# Altium footprint library SOIC18-1.27-11.5X7.5MM.PcbLib: 1 footprints
Each footprint in its own frame and in the unit in brackets; x right, y up, seen from the top. Pads: shape width x height; smd on the part's side, far side on the other; paste and mask are expansions set on the pad; w line width, h text height; cw(c..) or ccw(c..) is an arc to the next point about the centre after c.
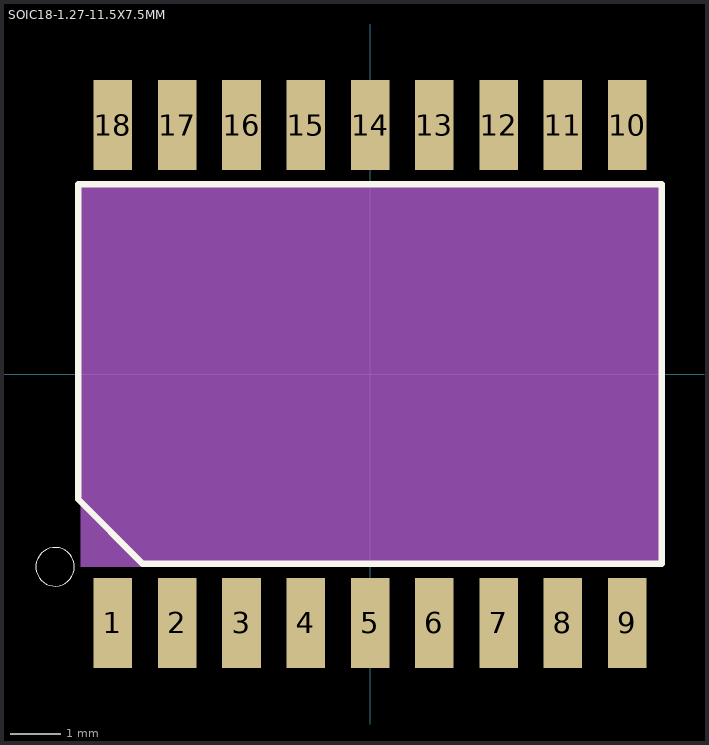
[diagram p0: the footprint, top view; thin cyan lines are the x and y axes]

## SOIC18-1.27-11.5X7.5MM [mil]
pads (18):
  rect 30x70 smd: 1(-200,-193.5) 2(-150,-193.5) 3(-100,-193.5) 4(-50,-193.5) 5(0,-193.5) 6(50,-193.5) 7(100,-193.5) 8(150,-193.5) 9(200,-193.5) 10(200,193.5) 11(150,193.5) 12(100,193.5) 13(50,193.5) 14(0,193.5) 15(-50,193.5) 16(-100,193.5) 17(-150,193.5) 18(-200,193.5)
Top Overlay:
  circle w0: c-245,-150 r15
  lines w5: -227,-97.5 -227,147.5 227,147.5 227,-147.5 -177,-147.5 -227,-97.5
Courtyard Top:
  region: 225,-150.12 -225.17,-150.12 -225.17,150 225,150
3D body "step_temp.STEP": height 104.33, standoff 0, extent -227.36,-202.76 227.36,202.76